# Altium footprint library PCB - DIODES - LED 0805_2012.PCBLIB: 1 footprints
Each footprint in its own frame and in the unit in brackets; x right, y up, seen from the top. Pads: shape width x height; smd on the part's side, far side on the other; paste and mask are expansions set on the pad; w line width, h text height; cw(c..) or ccw(c..) is an arc to the next point about the centre after c.
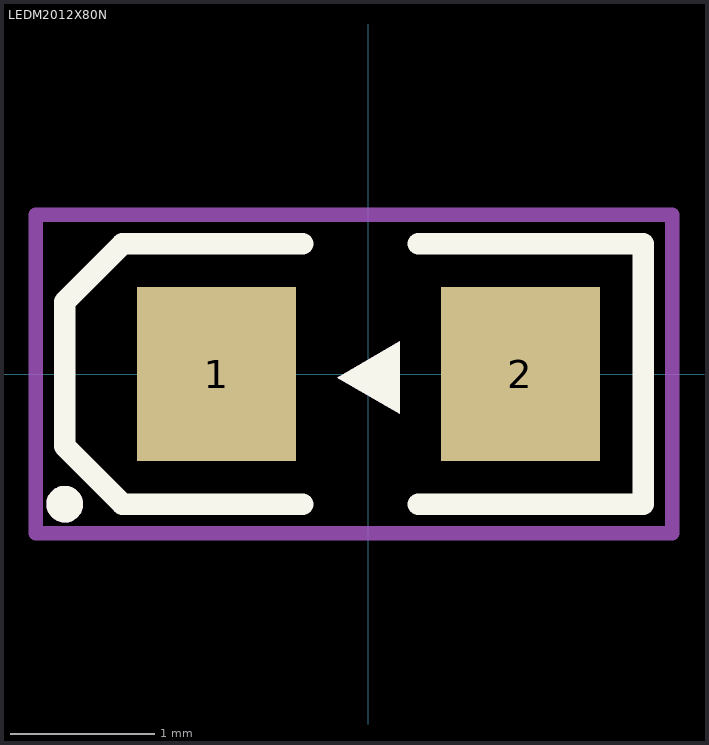
[diagram p0: the footprint, top view; thin cyan lines are the x and y axes]

## LEDM2012X80N [mm]
pads (2):
  rect 1.1x1.2 smd: 1(-1.05,0) 2(1.05,0)
Top Overlay:
  circle w0.127: c-2.1,-0.9 r0.064
  region: -0.217,-0.025 0.217,-0.275 0.217,0.225
  lines w0.15: -0.454,-0.9 -1.7,-0.9 -2.1,-0.5 -2.1,-0.25 -2.1,0.25 -2.1,0.5 -1.7,0.9 -0.454,0.9 ; 0.346,-0.9 1.9,-0.9 1.9,0.9 0.346,0.9
Top Assembly:
  circle w0.127: c-2.1,-0.9 r0.064
  region: -0.217,-0.025 0.217,-0.275 0.217,0.225
  lines w0.1: -2.3,-1.1 2.1,-1.1 ; -2.3,-1.1 2.1,-1.1 ; -2.3,-1.1 -2.3,1.1 2.1,1.1 2.1,-1.1 ; -2.3,-1.1 2.1,-1.1
Top Courtyard:
  lines w0.05: -2.3,-1.1 2.1,-1.1 2.1,1.1 -2.3,1.1 -2.3,-1.1
Top Designator:
  text ".Designator" at -0.8,-1.9 h1
Top Value (Mech13):
  text ".Comment" at -0.8,-2.8 h1
3D body "150080GS75000.stp": height 0.7, standoff 0, extent -1,-0.625 1,0.625